# Altium schematic symbol library libv1.SchLib: 82 symbols (part 3 of 3)
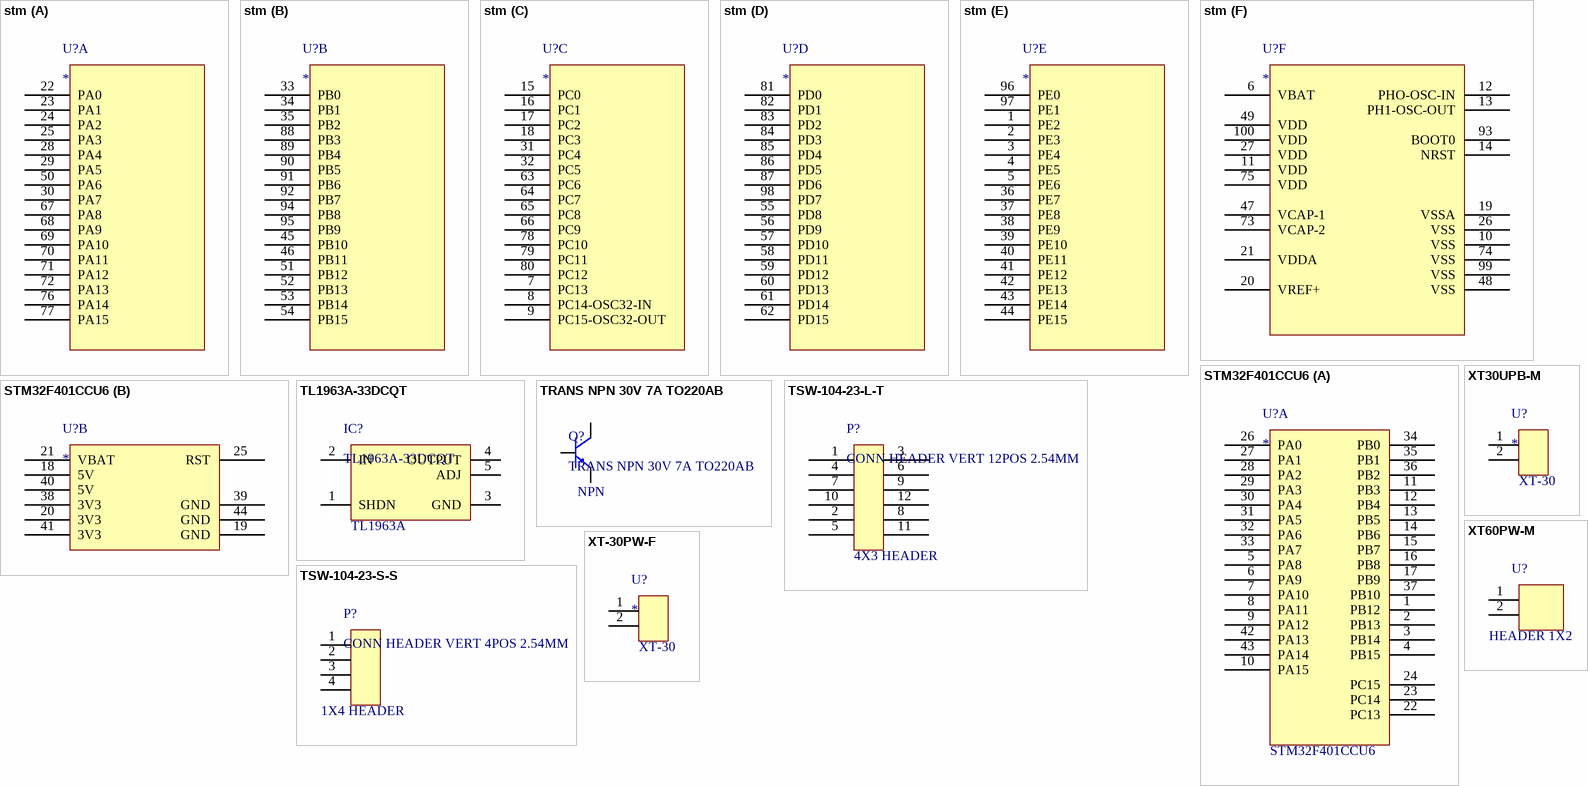
[diagram p4: symbols stm to XT-30PW-F]

## stm
designator U?
footprint DevEBox-STM32H743VIT6
part A pins: 22 PA0, 23 PA1, 24 PA2, 25 PA3, 28 PA4, 29 PA5, 30 PA7, 50 PA6, 67 PA8, 68 PA9, 69 PA10, 70 PA11, 71 PA12, 72 PA13, 76 PA14, 77 PA15
part B pins: 33 PB0, 34 PB1, 35 PB2, 45 PB10, 46 PB11, 51 PB12, 52 PB13, 53 PB14, 54 PB15, 88 PB3, 89 PB4, 90 PB5, 91 PB6, 92 PB7, 94 PB8, 95 PB9
part C pins: 7 PC13, 8 PC14-OSC32-IN, 9 PC15-OSC32-OUT, 15 PC0, 16 PC1, 17 PC2, 18 PC3, 31 PC4, 32 PC5, 63 PC6, 64 PC7, 65 PC8, 66 PC9, 78 PC10, 79 PC11, 80 PC12
part D pins: 55 PD8, 56 PD9, 57 PD10, 58 PD11, 59 PD12, 60 PD13, 61 PD14, 62 PD15, 81 PD0, 82 PD1, 83 PD2, 84 PD3, 85 PD4, 86 PD5, 87 PD6, 98 PD7
part E pins: 1 PE2, 2 PE3, 3 PE4, 4 PE5, 5 PE6, 36 PE7, 37 PE8, 38 PE9, 39 PE10, 40 PE11, 41 PE12, 42 PE13, 43 PE14, 44 PE15, 96 PE0, 97 PE1
part F pins: 6 VBAT, 10 VSS, 11 VDD, 12 PHO-OSC-IN, 13 PH1-OSC-OUT, 14 NRST, 19 VSSA, 20 VREF+, 21 VDDA, 26 VSS, 27 VDD, 47 VCAP-1, 48 VSS, 49 VDD, 73 VCAP-2, 74 VSS, 75 VDD, 93 BOOT0, 99 VSS, 100 VDD

## STM32F401CCU6
designator U?
footprint STM32F401CCU6
part A pins: 1 PB12, 2 PB13, 3 PB14, 4 PB15, 5 PA8, 6 PA9, 7 PA10, 8 PA11, 9 PA12, 10 PA15, 11 PB3, 12 PB4, 13 PB5, 14 PB6, 15 PB7, 16 PB8, 17 PB9, 22 PC13, 23 PC14, 24 PC15, 26 PA0, 27 PA1, 28 PA2, 29 PA3, 30 PA4, 31 PA5, 32 PA6, 33 PA7, 34 PB0, 35 PB1, 36 PB2, 37 PB10, 42 PA13, 43 PA14
part B pins: 18 5V, 19 GND, 20 3V3, 21 VBAT, 25 RST, 38 3V3, 39 GND, 40 5V, 41 3V3, 44 GND

## TL1963A-33DCQT
designator IC?
LDO Regulator Pos 3.3V 1.5A 6-Pin(5+Tab) SOT-223 T/R; Manufacturer: STMicroelectronics; Manufacturer Part Number: L7805CDT-TR; Number of Outputs: 1; Max Input Voltage: 35V; Output Voltage: 5V; Polarity: Positive; Quiescent Current: 8mA; Output Type: Fixed; Dropout Voltage: 2V; Min Input Voltage: 7V; Power Supply Rejection Ratio (PSRR): 62dB; Min Current Limit: 1.6A; Accuracy: 3%; Supplier 1: Farnell; RoHS: Yes; Category: Voltage Regulators - Linear; Stock 1: 35391; Pricing 1: 1=1,28000, 10=1,01000, 100=0,69900, 500=0,59500 (EUR); Mount: Surface Mount; Case/Package: TO-252; Number of Pins: 3; Contact Plating: Tin,Matte; Min Operating Temperature: 0°C; Max Operating Temperature: 125°C; Max Output Current: 1.5A; Package Quantity: 1; Packaging: Tape and Reel; Output Current: 1.5A; Number of Regulators: 1; Min Output Voltage: 5V; Series: -; Length: 6.6mm; Width: 6.2mm; Height: 2.4mm; Radiation Hardening: No; Lead Free: Lead Free; RoHS Compliant: Yes; ComponentLink1URL: https://datasheet.ciiva.com/26904/l7805cdt-tr-26904768.pdf?src-supplier=IIIC; ComponentLink1Description: https://datasheet.ciiva.com/26904/l7805cdt-tr-26904768.pdf?src-supplier=IIIC; ComponentLink2URL: https://datasheet.ciiva.com/2042/cd00000444-2042784.pdf?src-supplier=Digi-Key; ComponentLink2Description: https://datasheet.ciiva.com/2042/cd00000444-2042784.pdf?src-supplier=Digi-Key; ComponentLink3URL: https://datasheet.ciiva.com/2042/cd00000444-2042783.pdf?src-supplier=Digi-Key; ComponentLink3Description: https://datasheet.ciiva.com/2042/cd00000444-2042783.pdf?src-supplier=Digi-Key; ComponentLink4URL: https://datasheet.ciiva.com/2042/cd00000444-2042785.pdf?src-supplier=Digi-Key; ComponentLink4Description: https://datasheet.ciiva.com/2042/cd00000444-2042785.pdf?src-supplier=Digi-Key; ComponentLink5URL: https://datasheet.ciiva.com/4882/cd00000444-4882231.pdf?src-supplier=Mouser; ComponentLink5Description: https://datasheet.ciiva.com/4882/cd00000444-4882231.pdf?src-supplier=Mouser; ComponentLink6URL: https://datasheet.ciiva.com/16357/cd00000444-16357893.pdf?src-supplier=Future+Electronics; ComponentLink6Description: https://datasheet.ciiva.com/16357/cd00000444-16357893.pdf?src-supplier=Future+Electronics; ComponentLink7URL: https://datasheet.ciiva.com/17360/cd00000444-17360220.pdf?src-supplier=Avnet+Europe; ComponentLink7Description: https://datasheet.ciiva.com/17360/cd00000444-17360220.pdf?src-supplier=Avnet+Europe; Supplier Part Number 1: 2849717; Supplier 2: Arrow Electronics; Stock 2: 250; Pricing 2: 1=4,00200, 10=3,60280, 25=3,40320, 100=3,00400, 250=2,80440, 500=2,53490, 1000=2,33530, 250=2,50200, 500=2,32700, 1000=2,11400 (USD); Max Output Voltage: 3.3V; ComponentLink8URL: https://datasheet.ciiva.com/14279/tl1963a-33-14279286.pdf?src-supplier=Avnet; ComponentLink8Description: https://datasheet.ciiva.com/14279/tl1963a-33-14279286.pdf?src-supplier=Avnet; ComponentLink9URL: https://datasheet.ciiva.com/6591/tl1963a-6591431.pdf?src-supplier=Digi-Key; ComponentLink9Description: https://datasheet.ciiva.com/6591/tl1963a-6591431.pdf?src-supplier=Digi-Key; ComponentLink10URL: https://datasheet.ciiva.com/26176/tl1963a-25-26176573.pdf?src-supplier=Avnet+Europe; ComponentLink10Description: https://datasheet.ciiva.com/26176/tl1963a-25-26176573.pdf?src-supplier=Avnet+Europe; ComponentLink11URL: https://datasheet.ciiva.com/6591/tl1963a-6591406.pdf?src-supplier=Digi-Key; ComponentLink11Description: https://datasheet.ciiva.com/6591/tl1963a-6591406.pdf?src-supplier=Digi-Key; ComponentLink12URL: https://datasheet.ciiva.com/6591/tl1963a-6591407.pdf?src-supplier=Digi-Key; ComponentLink12Description: https://datasheet.ciiva.com/6591/tl1963a-6591407.pdf?src-supplier=Digi-Key; Supplier Part Number 2: TL1963A-33DCQT
footprint TL1963A-33DCQT
pins: 1 SHDN, 2 IN, 3 GND, 4 OUTPUT, 5 ADJ
text: TL1963A

## TRANS NPN 30V 7A TO220AB
designator Q?
Bipolar (BJT) Transistor NPN 30 V 7 A 4MHz 40 W Through Hole TO-220
pins: 1 COLLECTOR, 2 BASE, 3 EMITTER
text: NPN

## TSW-104-23-L-T
designator P?, comment CONN HEADER VERT 12POS 2.54MM
footprint TSW-104-23-L-T (CONN HEADER VERT 12POS 2.54MM)
pins: 1, 2, 3, 4, 5, 6, 7, 8, 9, 10, 11, 12
text: 4X3 HEADER

## TSW-104-23-S-S
designator P?, comment CONN HEADER VERT 4POS 2.54MM
Headers & Wire Housings Classic PCB Header Strips, 0.100 pitch; Manufacturer: Samtec; Manufacturer Part Number: TSW-104-23-S-S; Number of Contacts: 4; Gender: Male; Max Current Rating: 7.6A; Connector Type: Male Pin; Max Voltage Rating (AC): 550V; Supplier 1: Digi-Key; RoHS: Yes; Category: Connectors; Stock 1: 1332; Pricing 1: 1=0,66000, 10=0,61900, 25=0,55720, 50=0,49540, 100=0,47470, 250=0,43344, 500=0,41280 (USD); Mount: Through Hole; Contact Plating: Gold; Housing Material: Plastic; Housing Color: Black; Contact Material: Bronze; Color: Black; Min Operating Temperature: -55°C; Max Operating Temperature: 125°C; Number of Rows: 1; Termination: Solder; Packaging: Bulk; Orientation: Straight; Number of Positions: 4; Package Quantity: 1; Length: 10.2mm; Width: 2.54mm; Height: 2.54mm; Pitch: 2.54mm; Contact Mating Length: 0.23inch; Radiation Hardening: No; Lead Free: Lead Free; ComponentLink1URL: https://datasheet.ciiva.com/6887/tsw-xxx-xx-xxx-x-xx-xxx-mkt-6887372.pdf?src-supplier=Digi-Key; ComponentLink1Description: https://datasheet.ciiva.com/6887/tsw-xxx-xx-xxx-x-xx-xxx-mkt-6887372.pdf?src-supplier=Digi-Key; ComponentLink2URL: https://datasheet.ciiva.com/10190/htsw-th-10190478.pdf?src-supplier=Avnet; ComponentLink2Description: https://datasheet.ciiva.com/10190/htsw-th-10190478.pdf?src-supplier=Avnet; Supplier Part Number 1: SAM1073-04-ND
footprint TSW-104-23-S-S
pins: 1 0, 2 1, 3 2, 4 3
text: 1X4 HEADER

## XT30UPB-M
designator U?
footprint XT30UPB-M (CONNECTOR)
pins: 1, 2
text: XT-30

## XT60PW-M
designator U?, comment HEADER 2X1  (value not drawn)
footprint XT60PW-M
pins: 1, 2
text: HEADER 1X2

## XT-30PW-F
designator U?
footprint XT-30PW-F
pins: 1, 2
text: XT-30